# EAGLE library part 74LVC126AD (library NXP_By_element14_Batch_1)
Quad buffer/line driver with 5 Volt tolerant input/outputs
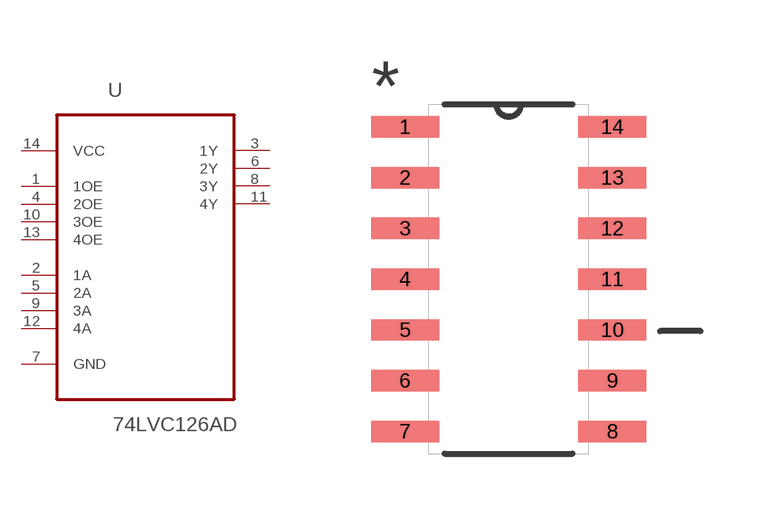
[diagram p228: symbol with the pads of SOIC127P600X175-14N; footprint SOIC127P600X175-14N]

Designator prefix U

## 74LVC126AD (MPN: 74LVC126AD; OC_FARNELL: 1631665; OC_NEWARK: 03P2781; PACKAGE: SOIC-14; SUPPLIER: NXP)  [SOIC127P600X175-14N]
1  1OE  in
2  1A  in
3  1Y  out
4  2OE  in
5  2A  in
6  2Y  out
7  GND  pas
8  3Y  out
9  3A  in
10  3OE  in
11  4Y  out
12  4A  in
13  4OE  in
14  VCC  pwr

## Footprint SOIC127P600X175-14N (pad centres in mm)
smd 1.702 x 0.533: 1 -2.591,3.81; 2 -2.591,2.54; 3 -2.591,1.27; 4 -2.591,0; 5 -2.591,-1.27; 6 -2.591,-2.54; 7 -2.591,-3.81; 8 2.591,-3.81; 9 2.591,-2.54; 10 2.591,-1.27; 11 2.591,0; 12 2.591,1.27; 13 2.591,2.54; 14 2.591,3.81